# Altium footprint library Inductors.PcbLib: 3 footprints
Each footprint in its own frame and in the unit in brackets; x right, y up, seen from the top. Pads: shape width x height; smd on the part's side, far side on the other; paste and mask are expansions set on the pad; w line width, h text height; cw(c..) or ccw(c..) is an arc to the next point about the centre after c.
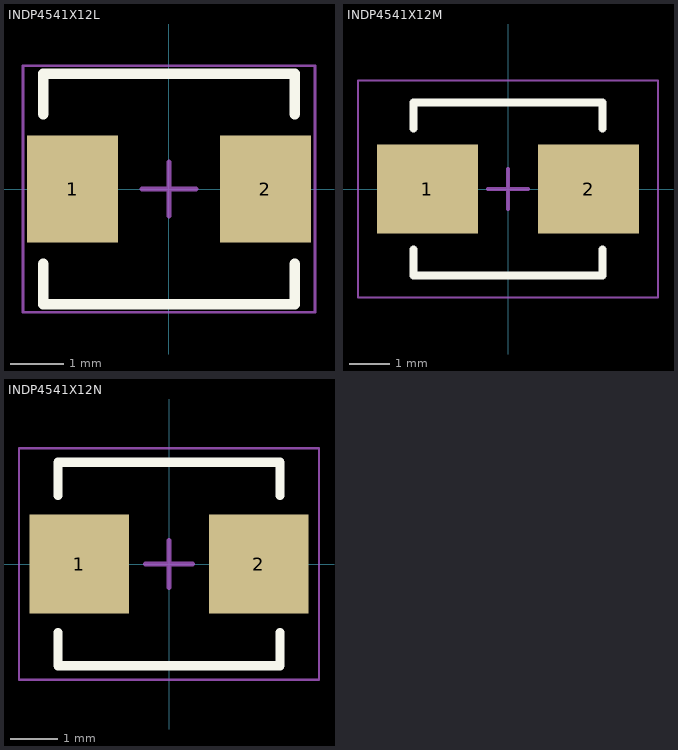
[diagram p0: the footprints below, top view; thin cyan lines are the x and y axes]

## INDP4541X12L [mm] "Precision Wire Wound Inductor, 2-Leads, Body 4,45x4,06mm, IPC High Density"
height 1.2
pads (2):
  rect 1.7x2 smd: 1(-1.8,0) 2(1.8,0)
Top Overlay:
  lines w0.2: -2.35,-1.4 -2.35,-2.15 2.35,-2.15 2.35,-1.4 ; -2.35,1.4 -2.35,2.15 2.35,2.15 2.35,1.4
Mechanical 15:
  lines w0.05: -2.725,-2.3 -2.725,2.3 2.725,2.3 2.725,-2.3 -2.725,-2.3
  lines w0.1: -0.5,0 0.5,0 ; 0,-0.5 0,0.5
3D body "srp4012.stp": height 0.9, standoff -0.3, extent -2.35,-2 2.35,2

## INDP4541X12M [mm] "Precision Wire Wound Inductor, 2-Leads, Body 4,45x4,06mm, IPC Low Density"
height 1.2
pads (2):
  rect 2.5x2.2 smd: 1(-2,0) 2(2,0)
Top Overlay:
  lines w0.2: -2.35,-1.5 -2.35,-2.15 2.35,-2.15 2.35,-1.5 ; -2.35,1.5 -2.35,2.15 2.35,2.15 2.35,1.5
Mechanical 15:
  lines w0.05: -3.725,-2.7 -3.725,2.7 3.725,2.7 3.725,-2.7 -3.725,-2.7
  lines w0.1: -0.5,0 0.5,0 ; 0,-0.5 0,0.5
3D body "srp4012.stp": height 0.9, standoff -0.3, extent -2.35,-2 2.35,2

## INDP4541X12N [mm] "Precision Wire Wound Inductor, 2-Leads, Body 4,45x4,06mm, IPC Medium Density"
height 1.2
pads (2):
  rect 2.1x2.1 smd: 1(-1.9,0) 2(1.9,0)
Top Overlay:
  lines w0.2: -2.35,-1.45 -2.35,-2.15 2.35,-2.15 2.35,-1.45 ; -2.35,1.45 -2.35,2.15 2.35,2.15 2.35,1.45
Mechanical 15:
  lines w0.05: -3.175,-2.45 3.175,-2.45 3.175,2.45 -3.175,2.45 -3.175,-2.45
  lines w0.1: -0.5,0 0.5,0 ; 0,-0.5 0,0.5
3D body "srp4012.stp": height 0.9, standoff -0.3, extent -2.35,-2 2.35,2